# Altium footprint library PAD135.PcbLib: 1 footprints
Each footprint in its own frame and in the unit in brackets; x right, y up, seen from the top. Pads: shape width x height; smd on the part's side, far side on the other; paste and mask are expansions set on the pad; w line width, h text height; cw(c..) or ccw(c..) is an arc to the next point about the centre after c.
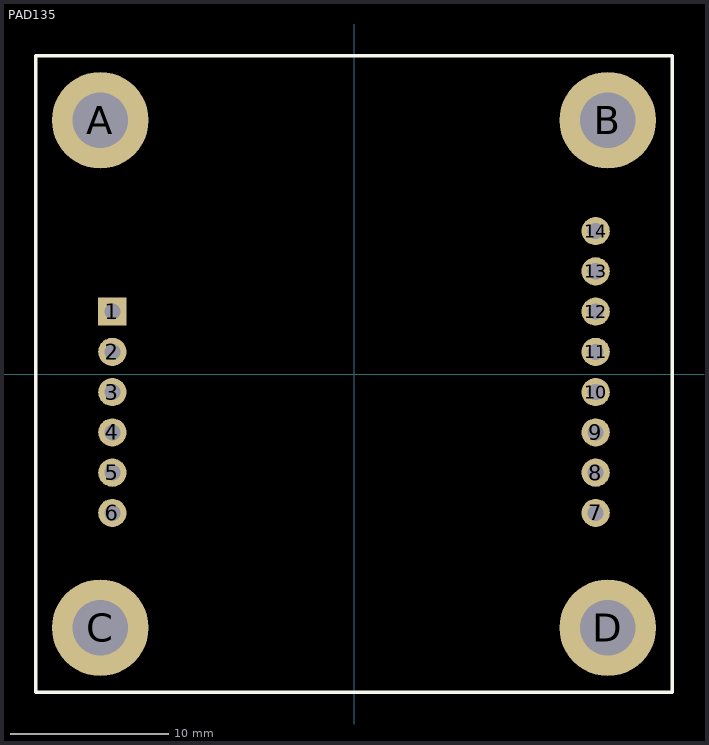
[diagram p0: the footprint, top view; thin cyan lines are the x and y axes]

## PAD135 [mil]
pads (18):
  rect 70x70 hole 40: 1(-600,155)
  round 70 hole 40: 2(-600,55) 3(-600,-45) 4(-600,-145) 5(-600,-245) 6(-600,-345) 7(600,-345) 8(600,-245) 9(600,-145) 10(600,-45) 11(600,55) 12(600,155) 13(600,255) 14(600,355)
  round 240 hole 138: A(-630,630) B(630,630) C(-630,-630) D(630,-630)
Top Overlay:
  lines w8: -790,-790 790,-790 790,790 -790,790 -790,-790
Bottom Overlay:
  lines w8: -650,-405 -650,215 -550,215 -550,-405 -650,-405 ; 550,-405 550,415 650,415 650,-405 550,-405
3D body: height 381.89, standoff 0, extent -747.17,512.13 -511.88,747.88
3D body: height 381.89, standoff 0, extent 512.83,512.13 748.12,747.88
3D body: height 381.89, standoff 0, extent -747.17,-747.87 -511.88,-512.12
3D body: height 381.89, standoff 0, extent 512.83,-747.87 748.12,-512.12
3D body: height 381.89, standoff 0, extent 550.02,-404.98 649.98,414.98
3D body: height 381.89, standoff 0, extent -649.98,-404.98 -550.02,214.98
3D body: height 488.19, standoff 381.89, extent -794,-794 794,794